# EAGLE library part XR2211ACP-F (library Exar_By_element14_Batch_1)
FSK Demodulator/ Tone Decoder
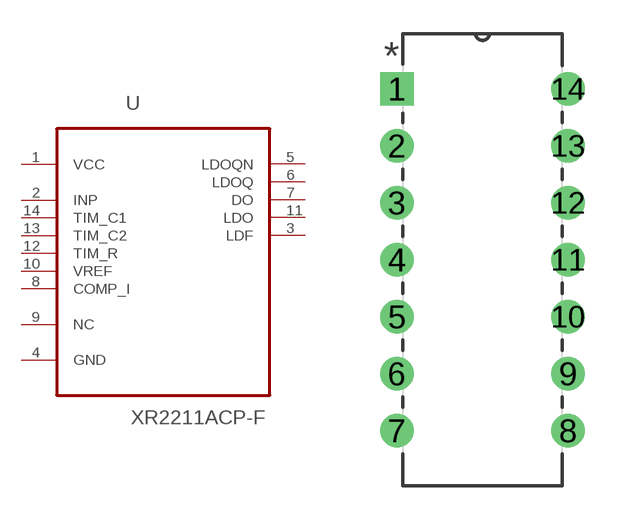
[diagram p81: symbol with the pads of DIP254P762X533-14; footprint DIP254P762X533-14]

Designator prefix U

## XR2211ACP-F (MPN: XR2211ACP-F; OC_FARNELL: 1798671; OC_NEWARK: 24R2371; PACKAGE: PDIP-14; SUPPLIER: EXAR)  [DIP254P762X533-14]
1  VCC  pwr
2  INP  in
3  LDF  out
4  GND  pas
5  LDOQN  out
6  LDOQ  out
7  DO  out
8  COMP_I  in
9  NC  nc
10  VREF  out
11  LDO  out
12  TIM_R  in
13  TIM_C2  in
14  TIM_C1  in

## Footprint DIP254P762X533-14 (pad centres in mm)
drill 0.991 square: 1 -7.62,15.24
drill 0.991: 2 -7.62,12.7; 3 -7.62,10.16; 4 -7.62,7.62; 5 -7.62,5.08; 6 -7.62,2.54; 7 -7.62,0; 8 0,0; 9 0,2.54; 10 0,5.08; 11 0,7.62; 12 0,10.16; 13 0,12.7; 14 0,15.24